# EAGLE library part 8-338069-8 (library 8-338069-8)
Body Features: Primary Product Color Red | Connector Profile Standard | Daisy Chain Without | Configuration Features: Number of Rows 2 | PCB Mount Orientation Vertical | Number of Positions 18 | Contact Features: PCB Contact Termination Area Plating Material Thickness 118.11 196.85 MICIN | Contact Underplating Material Nickel | Contact Current Rating (Max) 1.5 AMP | Contact Mating Area Plating Material Thickness 118.11 196.85 MICIN | Contact Mating Area Plating Material Tin | Contact Type Socket | C Source: Datasheet <https://www.te.com/commerce/DocumentDelivery/DDEController?Action=srchrtrv&DocNm=4-1773457-1_050_Micro_MaTch&DocType=Data Sheet&DocLang=English&PartCntxt=8-338069-8&DocFormat=pdf>
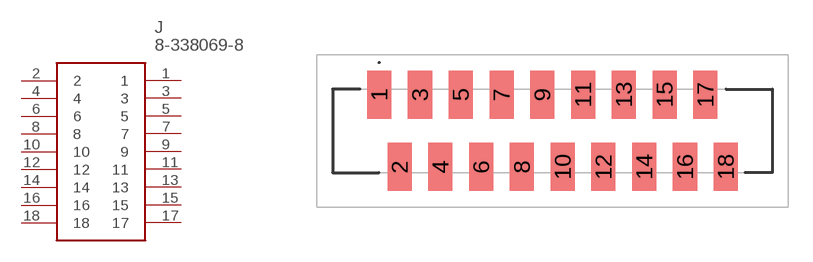
[diagram p0: symbol with the pads of 83380698; footprint 83380698]

Designator prefix J

## 8-338069-8 (Arrow_Part_Number: 8-338069-8; Arrow_Price-Stock: https://www.arrow.com/en/products/8-338069-8/te-connectivity?region=nac; Description: Body Features: Primary Product Color Red | Connector Profile Standard | Daisy Chain Without | Configuration Features: Number of Rows 2 | PCB Mount Orientation Vertical | Number of Positions 18 | Contact Features: PCB Contact Termination Area Plating Material Thickness 118.11 196.85 MICIN | Contact Underplating Material Nickel | Contact Current Rating (Max) 1.5 AMP | Contact Mating Area Plating Material Thickness 118.11 196.85 MICIN | Contact Mating Area Plating Material Tin | Contact Type Socket | C; Height: 5.3mm; Manufacturer_Name: TE Connectivity; Manufacturer_Part_Number: 8-338069-8; Mouser_Part_Number: 571-8-338069-8; Mouser_Price-Stock: https://www.mouser.co.uk/ProductDetail/TE-Connectivity/8-338069-8?qs=rb%252BOsUuIftz87g6y3haTiw%3D%3D)  [83380698]
1  1
2  2
3  3
4  4
5  5
6  6
7  7
8  8
9  9
10  10
11  11
12  12
13  13
14  14
15  15
16  16
17  17
18  18

## Footprint 83380698 (pad centres in mm)
8-338069-8-1
smd 1.5 x 3: 1 -10.795,2.25; 2 -9.525,-2.25; 3 -8.255,2.25; 4 -6.985,-2.25; 5 -5.715,2.25; 6 -4.445,-2.25; 7 -3.175,2.25; 8 -1.905,-2.25; 9 -0.635,2.25; 10 0.635,-2.25; 11 1.905,2.25; 12 3.175,-2.25; 13 4.445,2.25; 14 5.715,-2.25; 15 6.985,2.25; 16 8.255,-2.25; 17 9.525,2.25; 18 10.795,-2.25